# Altium schematic symbol library ATMEGA32U4.SchLib: 1 symbol
Pins are listed as number, name and electrical type; pins without a type are passive.

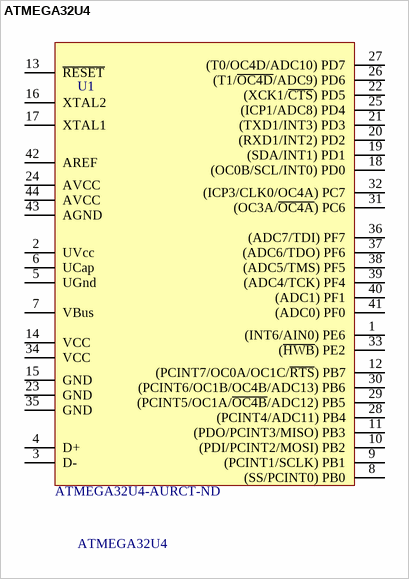
[diagram p0: symbol ATMEGA32U4]

## ATMEGA32U4
designator U1  Supplier Part Number 1: ATMEGA32U4-AURCT-ND
AVR ATmega Microcontroller IC 8-Bit 16MHz 32KB (16K x 16) FLASH; Supplier 1: Digi-Key
footprint QFN45P50_700X700X100L55X24T377N (Quad Flat No-Lead (QFN) with Thermal Tab, 0.50 mm pitch;  square, 11 pin X 11 pin, 7.00 mm L X 7.00 mm W X 1.00 mm H Body)
footprint QFP44P80_1200X1200X120L60X37N (Quad Flat Pack (QFP), 0.80 mm pitch; square, 11 pin X 11 pin, 10.00 mm L X 10.00 mm W X 1.20 mm H body)
pins: 1 (INT6/AIN0) PE6, 2 UVcc, 3 D-, 4 D+, 5 UGnd, 6 UCap, 7 VBus, 8 (SS/PCINT0) PB0, 9 (PCINT1/SCLK) PB1, 10 (PDI/PCINT2/MOSI) PB2, 11 (PDO/PCINT3/MISO) PB3, 12 (PCINT7/OC0A/OC1C/~{RTS}) PB7, 13 ~{RESET}, 14 VCC, 15 GND, 16 XTAL2, 17 XTAL1, 18 (OC0B/SCL/INT0) PD0, 19 (SDA/INT1) PD1, 20 (RXD1/INT2) PD2, 21 (TXD1/INT3) PD3, 22 (XCK1/~{CTS}) PD5, 23 GND, 24 AVCC, 25 (ICP1/ADC8) PD4, 26 (T1/~{OC4D}/ADC9) PD6, 27 (T0/OC4D/ADC10) PD7, 28 (PCINT4/ADC11) PB4, 29 (PCINT5/OC1A/~{OC4B}/ADC12) PB5, 30 (PCINT6/OC1B/OC4B/ADC13) PB6, 31 (OC3A/~{OC4A}) PC6, 32 (ICP3/CLK0/OC4A) PC7, 33 (~{HWB}) PE2, 34 VCC, 35 GND, 36 (ADC7/TDI) PF7, 37 (ADC6/TDO) PF6, 38 (ADC5/TMS) PF5, 39 (ADC4/TCK) PF4, 40 (ADC1) PF1, 41 (ADC0) PF0, 42 AREF, 43 AGND, 44 AVCC